# Altium schematic symbol library B-NT_RLC.SchLib: 58 symbols
Pins are listed as number, name and electrical type; pins without a type are passive.

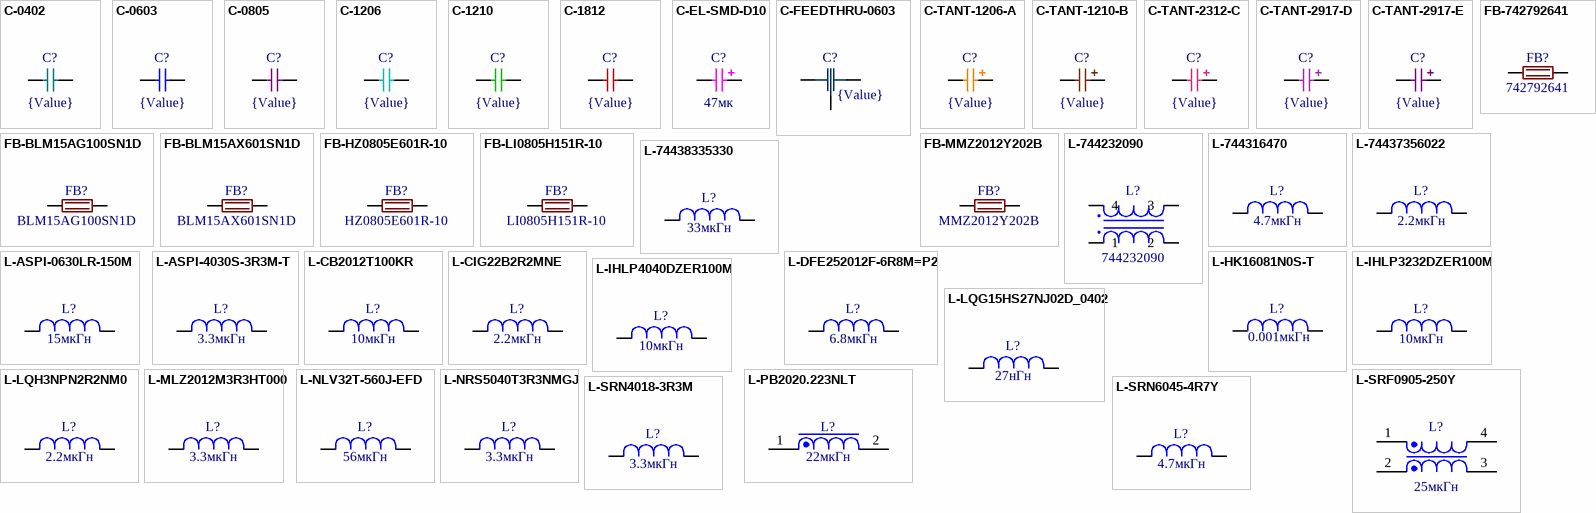
[diagram p0: symbols C-0402 to L-SRN6045-4R7Y]

## C-0402
designator C?  value {Value}
SMD X7R 0402 16В ±10%; ValueManufacturer: Murata Electronics; ValueManufacturerPartNumber: GCM155R71C; ValueDescription: X7R 0402 (1005)  16В  {Value}Ф ±10%; ValueType: Ceramic Capacitor; Price: 0.03; ComponentLink1Description: Murata Electronics Datasheet; ComponentLink1URL: http://www.murata.com/~/media/webrenewal/support/library/catalog/products/capacitor/mlcc/c03e.ashx; Package: X7R 0402 (1005); PowerVoltage: 16В; Tolerance: ±10%; Operating Temperature: -55°C~125°C; CheckDate: SC 18.12.16
footprint C0402
simulation model Capacitor (Model Description)
signal-integrity model Cap (Model Description)
pins: 1, 2
1 alternate drawing of the same symbol

## C-0603
designator C?  value {Value}
SMD X7R 0603 25В ±10%; ValueManufacturer: Murata Electronics; ValueManufacturerPartNumber: GCM188R71H; ValueDescription: X7R 0603 (1608)  25В  {Value}Ф ±10%; ValueType: Ceramic Capacitor; Price: 0.03; ComponentLink1Description: Murata Electronics Datasheet; ComponentLink1URL: http://www.murata.com/~/media/webrenewal/support/library/catalog/products/capacitor/mlcc/c03e.ashx; Package: X7R 0603 (1608); PowerVoltage: 25В; Tolerance: ±10%; Operating Temperature: -55°C~125°C; CheckDate: SC 18.12.16
footprint C0603
simulation model Capacitor (Model Description)
signal-integrity model Cap (Model Description)
pins: 1, 2
1 alternate drawing of the same symbol

## C-0805
designator C?  value {Value}
SMD X7R 0805 50В ±10%; ValueManufacturer: Murata Electronics; ValueManufacturerPartNumber: GCM21BR71H; ValueDescription: X7R 0805 (2012)  50В  {Value}Ф ±10%; ValueType: Ceramic Capacitor; Price: 0.03; ComponentLink1Description: Murata Electronics Datasheet; ComponentLink1URL: http://www.murata.com/~/media/webrenewal/support/library/catalog/products/capacitor/mlcc/c03e.ashx; Package: X7R 0805 (2012); PowerVoltage: 50В; Tolerance: ±10%; Operating Temperature: -55°C~125°C; CheckDate: SC 18.12.16
footprint C0805
simulation model Capacitor (Model Description)
signal-integrity model Cap (Model Description)
pins: 1, 2
1 alternate drawing of the same symbol

## C-1206
designator C?  value {Value}
SMD X7R 1206 100В ±10%; ValueManufacturer: Murata Electronics; ValueManufacturerPartNumber: GCM319R72A; ValueDescription: X7R 1206 (3216)  100В  {Value}Ф ±10%; ValueType: Ceramic Capacitor; Price: 0.35; ComponentLink1Description: Murata Electronics Datasheet; ComponentLink1URL: http://www.murata.com/~/media/webrenewal/support/library/catalog/products/capacitor/mlcc/c03e.ashx; Package: X7R 1206 (3216); PowerVoltage: 100В; Tolerance: ±10%; Operating Temperature: -55°C~125°C; CheckDate: SC 18.12.16
footprint C1206
simulation model Capacitor (Model Description)
signal-integrity model Cap (Model Description)
pins: 1, 2
1 alternate drawing of the same symbol

## C-1210
designator C?  value {Value}
SMD X7R 1210 250В ±10%; ValueManufacturer: Murata Electronics; ValueManufacturerPartNumber: GCJ32DR72E; ValueDescription: X7R 1210 (3225)  250В  {Value}Ф ±10%; ValueType: Ceramic Capacitor; Price: 0.65; ComponentLink1Description: Murata Electronics Datasheet; ComponentLink1URL: http://www.murata.com/~/media/webrenewal/support/library/catalog/products/capacitor/mlcc/c03e.ashx; Package: X7R 1210 (3225); PowerVoltage: 250В; Tolerance: ±10%; Operating Temperature: -55°C~125°C; CheckDate: SC 18.12.16
footprint C1210
simulation model Capacitor (Model Description)
signal-integrity model Cap (Model Description)
pins: 1, 2
1 alternate drawing of the same symbol

## C-1812
designator C?  value {Value}
SMD X7R 1812 630В ±10%; ValueManufacturer: Murata Electronics; ValueManufacturerPartNumber: GCJ43DR72J; ValueDescription: X7R 1812 (4532)  630В  {Value}Ф ±10%; ValueType: Ceramic Capacitor; Price: 1.2; ComponentLink1Description: Murata Electronics Datasheet; ComponentLink1URL: http://www.murata.com/~/media/webrenewal/support/library/catalog/products/capacitor/mlcc/c03e.ashx; Package: X7R 1812 (4532); PowerVoltage: 630В; Tolerance: ±10%; Operating Temperature: -55°C~125°C; CheckDate: SC 18.12.16
footprint C1812
simulation model Capacitor (Model Description)
signal-integrity model Cap (Model Description)
pins: 1, 2
1 alternate drawing of the same symbol

## C-EL-SMD-D10
designator C?  value 47мк
SMD CAP ALUM 47UF 20% 50V 10.30x10.30mm; ValueManufacturer: Panasonic Electronic; ValueManufacturerPartNumber: EEE-FC1H470P; PowerVoltage: 50B; ValueDescription: EEE-FC1H470P  50B  47мкФ ±20%  10.30x10.30mm; ValueType: Electrolytic Capacitor; Price: 0.68; ComponentLink1Description: Panasonic Electronic Components Datasheet; ComponentLink1URL: https://industrial.panasonic.com/ww/products/capacitors/aluminum-capacitors/aluminum-cap-smd/fc-v/EEEFC1H470P; Package: 10.30x10.30mm; Tolerance: ±20%; Operating Temperature: -40°C~105°C; CheckDate: SC 04.01.17
footprint CAP_ELEC_SIZE_G (Capacitor, polarized, aluminum can; 10.0x10.2mm DxH)
pins: 1, 2
1 alternate drawing of the same symbol

## C-FEEDTHRU-0603
designator C?  value {Value}
FEEDTHRU SMD X7R 0603 6.3В ±20%; ValueManufacturer: TDK Corporation; ValueManufacturerPartNumber: YFF18PW0J474MT0H0N; ValueDescription: X7R 0603 (1608)  6.3В  {Value}Ф ±20%; ValueType: Ceramic Capacitor; Price: 0.51; ComponentLink1Description: Murata Electronics Datasheet; ComponentLink1URL: http://www.murata.com/~/media/webrenewal/support/library/catalog/products/capacitor/mlcc/c03e.ashx; Package: X7R 0603 (1608); PowerVoltage: 6.3В; Tolerance: ±20%; Operating Temperature: -55°C~125°C; CheckDate: SC *
footprint C0603-FEEDTHRU
pins: 1, 2, 3
1 alternate drawing of the same symbol

## C-TANT-1206-A
designator C?  value {Value}
SMD TANT 100UF 6.3V 10% 1206; ValueManufacturer: AVX Corporation; ValueManufacturerPartNumber: F930J107KAA; TechSpec: ESR=2 Ohm; ValueDescription: 1206 (3216)  6.3V  {Value}Ф ±10%  ESR=2 Ohm; ValueType: Tantalum Capacitor; Price: 0.73; ComponentLink1Description: AVX Corporation Datasheet; ComponentLink1URL: http://datasheets.avx.com/F93.pdf; Package: 1206 (3216); PowerVoltage: 6.3V; Tolerance: ±10%; Operating Temperature: -55°C~125°C; CheckDate: SC 01.11.17
footprint C-TANT-1206-A
pins: 1, 2
1 alternate drawing of the same symbol

## C-TANT-1210-B
designator C?  value {Value}
SMD TANT 220UF 6.3V 10% 1210; ValueManufacturer: AVX Corporation; ValueManufacturerPartNumber: F930J107KAA; TechSpec: ESR=1.2 Ohm; ValueDescription: 1210 (3528)  6.3V  {Value}Ф ±10%  ESR=1.2 Ohm; ValueType: Tantalum Capacitor; Price: 0.84; ComponentLink1Description: AVX Corporation Datasheet; ComponentLink1URL: http://datasheets.avx.com/F93.pdf; Package: 1210 (3528); PowerVoltage: 6.3V; Tolerance: ±10%; Operating Temperature: -55°C~125°C; CheckDate: SC 01.11.17
footprint C-TANT-1210-B
pins: 1, 2
1 alternate drawing of the same symbol

## C-TANT-2312-C
designator C?  value {Value}
SMD TANT 330UF 6.3V 10% 2312; ValueManufacturer: AVX Corporation; ValueManufacturerPartNumber: TAJC337K006RNJ; TechSpec: ESR=0.5 Ohm; ValueDescription: 2312 (6032)  6.3V  {Value}Ф ±10%  ESR=0.5 Ohm; ValueType: Tantalum Capacitor; Price: 2.29; ComponentLink1Description: AVX Corporation Datasheet; ComponentLink1URL: http://datasheets.avx.com/TAJ.pdf; Package: 2312 (6032); PowerVoltage: 6.3V; Tolerance: ±10%; Operating Temperature: -55°C~125°C; CheckDate: SC 01.11.17
footprint C-TANT-2312-C
pins: 1, 2
1 alternate drawing of the same symbol

## C-TANT-2917-D
designator C?  value {Value}
SMD TANT 470UF 6.3V 10% 2917; ValueManufacturer: AVX Corporation; ValueManufacturerPartNumber: TAJD477K006RNJ; TechSpec: ESR=0.4 Ohm; ValueDescription: 2917 (7343)  6.3V  {Value}Ф ±10%  ESR=0.4 Ohm; ValueType: Tantalum Capacitor; Price: 3.08; ComponentLink1Description: AVX Corporation Datasheet; ComponentLink1URL: http://datasheets.avx.com/TAJ.pdf; Package: 2917 (7343); PowerVoltage: 6.3V; Tolerance: ±10%; Operating Temperature: -55°C~125°C; CheckDate: SC 01.11.17
footprint C-TANT-2917-D
pins: 1, 2
1 alternate drawing of the same symbol

## C-TANT-2917-E
designator C?  value {Value}
SMD TANT 1000UF 6.3V 20% 2917; ValueManufacturer: AVX Corporation; ValueManufacturerPartNumber: TAJE108M006RNJ; TechSpec: ESR=0.2 Ohm; ValueDescription: 2917 (7343)  6.3V  {Value}Ф ±20%  ESR=0.2 Ohm; ValueType: Tantalum Capacitor; Price: 5.18; ComponentLink1Description: AVX Corporation Datasheet; ComponentLink1URL: http://datasheets.avx.com/TAJ.pdf; Package: 2917 (7343); PowerVoltage: 6.3V; Tolerance: ±20%; Operating Temperature: -55°C~125°C; CheckDate: SC 01.11.17
footprint C-TANT-2917-E
pins: 1, 2
1 alternate drawing of the same symbol

## FB-742792641
designator FB?  value 742792641
FERRITE BEAD 300 OHM 2А 0603 1LN; ValueManufacturer: Wurth; PowerVoltage: 2A; Tolerance: 300Ohm@100MHz; ValueDescription: 742792641 Ferrite Bead  0603 (1608)  2A  300Ohm@100MHz; Price: 0.18; Package: 0603 (1608); ValueManufacturerPartNumber: 742792641; ValueType: Ferrite Bead; Operating Temperature: -55°C ~ 125°C; CheckDate: SC *; ComponentLink1Description: Wurth Elc.; ComponentLink1URL: http://katalog.we-online.de/pbs/datasheet/742792641.pdf
footprint FB0603 (Body 1,6x0,8x0,8)
pins: 1, 2
1 alternate drawing of the same symbol

## FB-BLM15AG100SN1D
designator FB?  value BLM15AG100SN1D
FERRITE BEAD 10 OHM 0402 1LN; ValueManufacturer: Murata; PowerVoltage: 1A; Tolerance: 10Ohm @ 100MHz; ValueDescription: BLM15AG100SN1D Ferrite Bead  0402 (1005)  1A  10Ohm @ 100MHz; Price: 0.1; ComponentLink1Description: Murata Datasheet; ComponentLink1URL: https://www.murata.com/en-us/products/productdata/8796740059166/ENFA0018.pdf; Package: 0402 (1005); ValueManufacturerPartNumber: BLM15AG100SN1D; ValueType: Ferrite Bead; Operating Temperature: -55°C~125°C; CheckDate: SC *
footprint FB0402
pins: 1, 2
1 alternate drawing of the same symbol

## FB-BLM15AX601SN1D
designator FB?  value BLM15AX601SN1D
FERRITE BEAD 600 OHM 0402; ValueManufacturer: Murata Electronics North America; PowerVoltage: 500mA; Tolerance: 600Ohm@100MHz; ValueDescription: BLM15AX601SN1D Ferrite Bead  0402 (1005)  500mA  600Ohm@100MHz; Price: 0.11; ComponentLink1Description: Murata Datasheet; ComponentLink1URL: https://www.murata.com/en-us/products/productdata/8796740059166/ENFA0018.pdf; Package: 0402 (1005); ValueManufacturerPartNumber: BLM15AX601SN1D; ValueType: Ferrite Bead; Operating Temperature: -55°C~125°C; CheckDate: SC
footprint FB0402
pins: 1, 2
1 alternate drawing of the same symbol

## FB-HZ0805E601R-10
designator FB?  value HZ0805E601R-10
FERRITE BEAD 600 OHM 0805; ValueManufacturer: Laird; PowerVoltage: 500mA; Tolerance: 600Ohm@100MHz; ValueDescription: HZ0805E601R-10 Ferrite Bead  0805 (2012)  500mA  600Ohm@100MHz; Price: 0.1; ComponentLink1Description: Laird Datasheet; ComponentLink1URL: http://cdn.lairdtech.com/home/brandworld/files/Catalog_EMI%20Filtering%20&%20RF%20Inductors.pdf; Package: 0805 (2012); ValueManufacturerPartNumber: HZ0805E601R-10; ValueType: Ferrite Bead; Operating Temperature: -40°C~125°C; CheckDate: SC 15.01.16
footprint FB0805
pins: 1, 2
1 alternate drawing of the same symbol

## FB-LI0805H151R-10
designator FB?  value LI0805H151R-10
FERRITE BEAD 150 OHM 0805 1LN SMD; ValueManufacturer: Larid; PowerVoltage: 800mA; Tolerance: 150 Ohms @ 100MHz; ValueDescription: LI0805H151R-10 Ferrite Bead  0805 (2012)  800mA  150 Ohms @ 100MHz; Price: 0.1; ComponentLink1Description: Laird Datasheet; ComponentLink1URL: https://media.digikey.com/pdf/Data%20Sheets/Steward%20PDFs/Part%20Number%20Guide.pdf; Package: 0805 (2012); ValueManufacturerPartNumber: LI0805H151R-10; ValueType: Ferrite Bead; Operating Temperature: -40°C~125°C; CheckDate: SC *
footprint FB0805
pins: 1, 2
1 alternate drawing of the same symbol

## FB-MMZ2012Y202B
designator FB?  value MMZ2012Y202B
FERRITE BEAD 2000 OHM 0805; ValueManufacturer: TDK; PowerVoltage: 400mA; Tolerance: 2kOhm@100MHz; ValueDescription: MMZ2012Y202B Ferrite Bead  0805 (2012)  400mA  2kOhm@100MHz; Price: 0.11; ComponentLink1Description: TDK Datasheet; ComponentLink1URL: https://product.tdk.com/info/en/catalog/datasheets/beads_commercial_signal_mmz2012_en.pdf; Package: 0805 (2012); ValueManufacturerPartNumber: MMZ2012Y202B; ValueType: Ferrite Bead; Operating Temperature: -55°C~125°C; CheckDate: SC *
footprint FB0805
pins: 1, 2
1 alternate drawing of the same symbol

## L-744232090
designator L?  value 744232090
CMC 370MA 2LN 90 OHM SMD; ValueManufacturer: Wurth Electronics Inc.; PowerVoltage: 50B; Tolerance: 90 Ohms @ 100MHz; ValueDescription: 744232090 Дроссель 744232090  4 PC Pad  50B  90 Ohms @ 100MHz; ValueType: Common Mode Chokes; Price: 1.23; ComponentLink1Description: Wurth Electronics Inc. Datasheet; ComponentLink1URL: http://katalog.we-online.de/pbs/datasheet/744232090.pdf; Package: 4 PC Pad; ValueManufacturerPartNumber: 744232090; Operating Temperature: -40°C~125°C; CheckDate: SC *
footprint 4 PC Pad_WE-CNSW (Body 3.20mm x 1.60mm)
pins: 1, 2, 3, 4

## L-744316470
designator L?  value 4.7мкГн
FIXED IND 4.7UH 4.6A 24.5 MOHM; ValueManufacturer: Wurth Electronics Inc.; ValueManufacturerPartNumber: 744316470; Tolerance: ±20%; ValueDescription: 744316470 Индуктивность 4.7мкГн  5.5x5.3mm  4.6A  ±20%; ValueType: Inductor; Price: 2.55; ComponentLink1Description: Wurth Electronics Datasheet; ComponentLink1URL: http://katalog.we-online.de/pbs/datasheet/744316470.pdf; Package: 5.5x5.3mm; PowerVoltage: 4.6A; Operating Temperature: -40°C~150°C; CheckDate: SC *
footprint l-744316470
pins: 1, 2
1 alternate drawing of the same symbol

## L-74437356022
designator L?  value 2.2мкГн
FIXED IND 2.2UH 8.5A 20.3 MOHM; ValueManufacturer: Wurth Electronics Inc.; ValueManufacturerPartNumber: 74437356022; Tolerance: ±20%; ValueDescription: 74437356022 Индуктивность 2.2мкГн  9.20x8.50mm  8.5A  ±20%; ValueType: Inductor; Price: 2.08; ComponentLink1Description: Wurth Electronics Datasheet; ComponentLink1URL: http://katalog.we-online.de/pbs/datasheet/74437356022.pdf; Package: 9.20x8.50mm; PowerVoltage: 8.5A; Operating Temperature: -40°C~125°C; CheckDate: SC *
footprint l-74437356022
pins: 1, 2
1 alternate drawing of the same symbol

## L-74438335330
designator L?  value 33мкГн
FIXED IND 33UH 500MA 1.33 OHM; ValueManufacturer: Wurth Electronics; ValueManufacturerPartNumber: 74438335330; PowerVoltage: 0.5A; Tolerance: ±20%; ValueDescription: 74438335330 Индуктивность 33мкГн  1212 (3030)  0.5A  ±20%; ValueType: Inductor; Price: 1.57; Package: 1212 (3030); Operating Temperature: -40°C~125°C; CheckDate: SC *
footprint L-1210 (3225 Metric) (0.126" L x 0.098" W (3.20mm x 2.50mm)_M)
pins: 1, 2
1 alternate drawing of the same symbol

## L-ASPI-0630LR-150M
designator L?  value 15мкГн
FIXED IND 15UH 3A 120 MOHM; ValueManufacturer: Abracon LLC; ValueManufacturerPartNumber: ASPI-0630LR-150M; Tolerance: ±20%; ValueDescription: ASPI-0630LR-150M Индуктивность 15мкГн  7.20x6.65mm  3A  ±20%; ValueType: Inductor; Price: 0.81; ComponentLink1Description: Abracon LLC Datasheet; ComponentLink1URL: http://www.abracon.com/Magnetics/power/ASPI-0630LR.pdf; Package: 7.20x6.65mm; PowerVoltage: 3A; Operating Temperature: -55°C~125°C; CheckDate: SC 15.01.17
footprint L-ASPI-0630LR
pins: 1, 2
1 alternate drawing of the same symbol

## L-ASPI-4030S-3R3M-T
designator L?  value 3.3мкГн
FIXED IND 3.3UH 2.4A 40 MOHM SMD; ValueManufacturer: Abracon LLC; ValueManufacturerPartNumber: ASPI-4030S-3R3M-T; Tolerance: ±20%; ValueDescription: ASPI-4030S-3R3M-T Индуктивность 3.3мкГн  3.0x4.0х4.0mm    ±20%; ValueType: Inductor; Price: 0.79000; ComponentLink1Description: Abracon LLC Datasheet; ComponentLink1URL: https://abracon.com/Magnetics/power/ASPI-4030S.pdf; Package: 3.0x4.0х4.0mm; Operating Temperature: -40°C ~ 125°C; CheckDate: SC *
footprint L-ASPI-4030S-3R3M-T
pins: 1, 2
1 alternate drawing of the same symbol

## L-CB2012T100KR
designator L?  value 10мкГн
FIXED IND 10µH 520mA 650mOhm 0805; ValueManufacturer: Taiyo Yuden; ValueManufacturerPartNumber: CB2012T100KR; PowerVoltage: 0.52A; Tolerance: ±10%; ValueDescription: CB2012T100KR Индуктивность 10мкГн  0805 (2012)  0.52A  ±10%; ValueType: Inductor; Price: 0.23; ComponentLink1Description: Taiyo Yuden Datasheet; ComponentLink1URL: http://www.yuden.co.jp/productdata/catalog/en/wound02_e.pdf; Package: 0805 (2012); Operating Temperature: -40°C~105°C; CheckDate: SC 15.01.17
footprint L0805
pins: 1, 2
1 alternate drawing of the same symbol

## L-CIG22B2R2MNE
designator L?  value 2.2мкГн
FIXED IND 2.2UH 1.1A 183 MOHM; ValueManufacturer: Samsung Electro-Mechanics; ValueManufacturerPartNumber: CIG22B2R2MNE; Tolerance: ±20%; ValueDescription: CIG22B2R2MNE Индуктивность 2.2мкГн  1008 (2520)  1.1A  ±20%; ValueType: Inductor; Price: 0.25; ComponentLink1Description: Samsung Electro-Mechanics Datasheet; ComponentLink1URL: http://www.samsungsem.com/kr/front/downloadcms.do?path=/kr/support/product-search/inductor/__icsFiles/afieldfile/2014/11/13&fileName=S_CIG22B1R0MAE.pdf; Package: 1008 (2520); PowerVoltage: 1.1A; Operating Temperature: -40°C~125°C; CheckDate: SC 25.12.16
footprint L1008 (Chip Inductor, 2-Leads, Body 2,50x2,00mm, IPC Medium Density)
pins: 1, 2
1 alternate drawing of the same symbol

## L-DFE252012F-6R8M=P2
designator L?  value 6.8мкГн
FIXED IND 6.8UH 1.2A 330 MOHM; ValueManufacturer: Murata Electronics North America; ValueManufacturerPartNumber: DFE252012F-6R8M=P2; Tolerance: ±20%; ValueDescription: DFE252012F-6R8M=P2 Индуктивность 6.8мкГн  1008 (2520)  1.2A  ±20%; ValueType: Inductor; Price: 0.67; Package: 1008 (2520); PowerVoltage: 1.2A; Operating Temperature: -40°C~125°C; CheckDate: SC *; ComponentLink1Description: Murata Electronics Datasheet; ComponentLink1URL: https://www.murata.com/~/media/webrenewal/products/inductor/chip/tokoproducts/wirewoundmetalalloychiptype/m_dfe252012f.ashx
footprint L1008 (Chip Inductor, 2-Leads, Body 2,50x2,00mm, IPC Medium Density)
pins: 1, 2
1 alternate drawing of the same symbol

## L-HK16081N0S-T
designator L?  value 0.001мкГн
FIXED INDUCTOR 1NH 300MA 50 MOHM SMD; ValueManufacturer: Taiyo Yuden; ValueManufacturerPartNumber: HK16081N0S-T; Tolerance: ±300пГн; ValueDescription: HK16081N0S-T Индуктивность 0.001мкГн  0603 (1608 Metric)  300mA  ±300пГн; Price: 0.12; ComponentLink1Description: Taiyo Yuden Datasheet; ComponentLink1URL: http://ds.yuden.co.jp/TYCOMPAS/ut/detail.do?productNo=HK16081N0S-T&fileName=HK16081N0S-T_SS&mode=specSheetDownload; Package: 0603 (1608 Metric); PowerVoltage: 300mA; ValueType: Fixed Inductor; Operating Temperature: -40°C ~ 85°C; CheckDate: SC *
footprint L0603_HK16081N0S-T (Body 1,6x0,8x0,8)
pins: 1, 2
1 alternate drawing of the same symbol

## L-IHLP3232DZER100M
designator L?  value 10мкГн
FIXED IND 10UH 5.2A 59.9 MOHM; ValueManufacturer: Vishay Dale; ValueManufacturerPartNumber: IHLP3232DZER100M; TechSpec: Высота 4mm; Tolerance: ±20%; ValueDescription: IHLP3232DZER100M Индуктивность 10мкГн  8.64x8.18mm  5.2A  ±20%  Высота 4mm; ValueType: Inductor; Price: 1.61; ComponentLink1Description: Vishay Dale Datasheet; ComponentLink1URL: http://www.vishay.com/docs/34192/lp40dz11.pdf; Package: 8.64x8.18mm; PowerVoltage: 5.2A; Operating Temperature: -55°C~125°C; CheckDate: SC 20.11.17
footprint L-IHLP3232DZER100M
pins: 1, 2
1 alternate drawing of the same symbol

## L-IHLP4040DZER100M
designator L?  value 10мкГн
FIXED IND 10UH 7.5A 30.5 MOHM; ValueManufacturer: Vishay Dale; ValueManufacturerPartNumber: IHLP4040DZER100M; PowerVoltage: 7.1A; Tolerance: ±20%; ValueDescription: IHLP4040DZER100M Индуктивность 10мкГн  11x10.30mm  7.1A  ±20%; ValueType: Inductor; Price: 2.48; ComponentLink1Description: Vishay Dale Datasheet; ComponentLink1URL: http://www.vishay.com/docs/34192/lp40dz11.pdf; Package: 11x10.30mm; Operating Temperature: -55°C~125°C; CheckDate: SC 12.03.17
footprint L-IHLP4040DZER100M11 (Chip Inductor, 2-Leads, Body 10.92mm x 10.30mm,  Vishay Dale)
pins: 1, 2
1 alternate drawing of the same symbol

## L-LQG15HS27NJ02D_0402
designator L?  value 27нГн
FIXED IND 27NH 350MA 460 MOHM; ValueManufacturer: Murata Electronics; ValueManufacturerPartNumber: LQG15HS27NJ02D; TechSpec: 460 mOhm Max; Tolerance: ±5%; ValueDescription: LQG15HS27NJ02D Индуктивность 27нГн  1.0x0.5mm  350mA  ±5%  460 mOhm Max; ValueType: Inductor; Price: 0.1; ComponentLink1Description: Murata Electronics Datasheet; ComponentLink1URL: http://psearch.en.murata.com/inductor/product/LQG15HS27NJ02_.pdf; Package: 1.0x0.5mm; PowerVoltage: 350mA; Operating Temperature: -40°C~125°C; CheckDate: SC *
footprint L0402
pins: 1, 2
1 alternate drawing of the same symbol

## L-LQH3NPN2R2NM0
designator L?  value 2.2мкГн
FIXED IND 2.2UH 1.6A 73 MOHM; ValueManufacturer: Murata; ValueManufacturerPartNumber: LQH3NPN2R2NM0; PowerVoltage: 1.25A; Tolerance: ±30%; ValueDescription: LQH3NPN2R2NM0 Индуктивность 2.2мкГн  1212  1.25A  ±30%; ValueType: Inductor; Price: 0.44; ComponentLink1Description: Murata Datasheet; ComponentLink1URL: http://psearch.en.murata.com/inductor/product/LQH3NPN2R2NM0%23.pdf; Package: 1212; Operating Temperature: -40°C~85°C; CheckDate: SC 12.03.17
footprint 1212_LQH3NPN2R2NM0L
pins: 1, 2
1 alternate drawing of the same symbol

## L-MLZ2012M3R3HT000
designator L?  value 3.3мкГн
FIXED IND 3.3UH 500MA 200 MOHM; ValueManufacturer: Taiyo Yuden; ValueManufacturerPartNumber: MLZ2012M3R3HT000; PowerVoltage: 0.5A; Tolerance: ±20%; ValueDescription: MLZ2012M3R3HT000 Индуктивность 3.3мкГн  0805 (2012)  0.5A  ±20%; ValueType: Inductor; Price: 0.15; ComponentLink1Description: TDK Corporation Datasheet; ComponentLink1URL: https://product.tdk.com/info/en/catalog/datasheets/inductor_commercial_decoupling_mlz2012_en.pdf; Package: 0805 (2012); Operating Temperature: -55°C ~ 125°C; CheckDate: SC *
footprint L0805
pins: 1, 2
1 alternate drawing of the same symbol

## L-NLV32T-560J-EFD
designator L?  value 56мкГн
FIXED IND 56UH 55MA 8 OHM SMD; ValueManufacturer: TDK Corporation; ValueManufacturerPartNumber: NLV32T-560J-EFD; Tolerance: ±5%; ValueDescription: NLV32T-560J-EFD Индуктивность 56мкГн  3.2x2.5х2.4mm  55mA  ±5%; ValueType: Inductor; Price: 0.33; ComponentLink1Description: TDK Corporation Datasheet; ComponentLink1URL: https://product.tdk.com/info/en/catalog/datasheets/inductor_automotive_standard_nlv32-efd_en.pdf; Package: 3.2x2.5х2.4mm; PowerVoltage: 55mA; Operating Temperature: -40°C~105°C; CheckDate: SC *
footprint L-1210 (3225 Metric) (0.126" L x 0.098" W (3.20mm x 2.50mm)_M)
pins: 1, 2
1 alternate drawing of the same symbol

## L-NRS5040T3R3NMGJ
designator L?  value 3.3мкГн
FIXED IND 3.3UH 3.3A 27 MOHM SMD; ValueManufacturer: Taiyo Yuden; ValueManufacturerPartNumber: NRS5040T3R3NMGJ; Tolerance: ±30%; ValueDescription: NRS5040T3R3NMGJ Индуктивность 3.3мкГн  4.9x4.9х4.1mm  3.3A  ±30%; ValueType: Inductor; Price: 0.38; ComponentLink1Description: Taiyo Yuden Datasheet; ComponentLink1URL: http://ds.yuden.co.jp/TYCOMPAS/ut/detail.do?productNo=NRS5040T3R3NMGJ&fileName=NRS5040T3R3NMGJ_SS&mode=specSheetDownload; Package: 4.9x4.9х4.1mm; PowerVoltage: 3.3A; Operating Temperature: -25°C~125°C; CheckDate: SC *
footprint L-NRS5040T3R3NMGJ (Precision Wire Wound Inductor, 2-Leads, Body 4,90x4,90mm, IPC Medium Density)
pins: 1, 2
1 alternate drawing of the same symbol

## L-PB2020.223NLT
designator L?  value 22мкГн
FIXED IND 22UH 8.1A 20 MOHM SMD; ValueManufacturer: Pulse Electronics; ValueManufacturerPartNumber: PB2020.223NLT; Tolerance: ±20%; ValueDescription: PB2020.223NLT Индуктивность 22мкГн  23.9x20.8mm  8.1A  ±20%; ValueType: INDUCTOR; Price: 3.49; ComponentLink1Description: Pulse Electronics Datasheet; ComponentLink1URL: http://productfinder.pulseeng.com/products/datasheets/SPM2007_14.pdf; Package: 23.9x20.8mm; PowerVoltage: 8.1A; Operating Temperature: -40°C~130°C; CheckDate: SC 26.12.16
footprint PB2020 (Inductor, 2-Leads, Body 23,87x20,83mm)
pins: 1, 2
1 alternate drawing of the same symbol

## L-SRF0905-250Y
designator L?  value 25мкГн
CHOKE 25uH 80V 1A 2LN 600OHM SMD; ValueManufacturer: Bourns; ValueManufacturerPartNumber: SRF0905-250Y; PowerVoltage: 80В 1.0A; Tolerance: ±30%; ValueDescription: SRF0905-250Y Дроссель 25мкГн  9.20x6.00mm  80В 1.0A  ±30%; Price: 1.13; ComponentLink1Description: Bourns Datasheet; ComponentLink1URL: http://www.bourns.com/docs/Product-Datasheets/SRF0905.pdf; Package: 9.20x6.00mm; ValueType: Choke; Operating Temperature: -40°C~105°C; CheckDate: SC 26.12.16
footprint SRF0905 (DFN, 4-Leads, Body 6,00x9,20mm)
pins: 1, 2, 3, 4

## L-SRN4018-3R3M
designator L?  value 3.3мкГн
FIXED IND 3.3UH 2.2A 66 MOHM SMD; ValueManufacturer: Bourns Inc.; ValueManufacturerPartNumber: SRN4018-3R3M; Tolerance: ±20%; ValueDescription: SRN4018-3R3M Индуктивность 3.3мкГн  4.0x4.0х1.8mm    ±20%  2.2A; ValueType: Inductor; Price: 0.44; ComponentLink1Description: Bourns Inc. Datasheet; ComponentLink1URL: http://www.bourns.com/docs/Product-Datasheets/SRN6045.pdf; Package: 4.0x4.0х1.8mm; TechSpec: 2.2A; Operating Temperature: -40°C~125°C; CheckDate: SC *
footprint L-SRN4018-3R3M
pins: 1, 2
1 alternate drawing of the same symbol

## L-SRN6045-4R7Y
designator L?  value 4.7мкГн
FIXED IND 4.7UH 3A 37.6 MOHM SMD; ValueManufacturer: Bourns Inc.; ValueManufacturerPartNumber: SRN6045-4R7Y; TechSpec: 3А; Tolerance: ±30%; ValueDescription: SRN6045-4R7Y Индуктивность 4.7мкГн  4.5x6.0х6.0mm    ±30%  3А; ValueType: Inductor; Price: 0.5; ComponentLink1Description: Bourns Inc. Datasheet; ComponentLink1URL: http://www.bourns.com/docs/Product-Datasheets/SRN6045.pdf; Package: 4.5x6.0х6.0mm; Operating Temperature: -40°C ~ 125°C; CheckDate: SC *
footprint L-INDP6060X45N (Precision Wire Wound Inductor, 2-Leads, Body 6,00x6,00mm, IPC Medium Density)
pins: 1, 2
1 alternate drawing of the same symbol

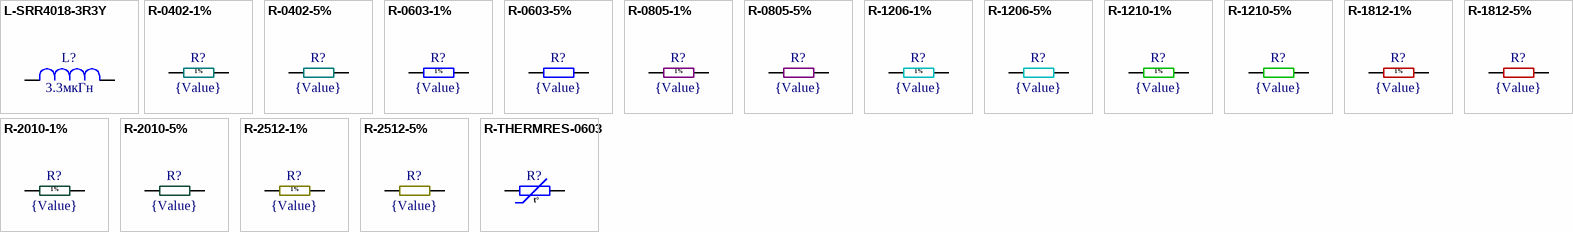
[diagram p1: symbols L-SRR4018-3R3Y to R-THERMRES-0603]

## L-SRR4018-3R3Y
designator L?  value 3.3мкГн
FIXED IND 3.3UH 1.95A 65 MOHM; ValueManufacturer: Bourns Inc.; ValueManufacturerPartNumber: SRR4018-3R3Y; Tolerance: ±30%; ValueDescription: SRR4018-3R3Y Индуктивность 3.3мкГн  2.0x4.8х4.8mm    ±30%; ValueType: Inductor; Price: 0.79000; ComponentLink1Description: Bourns Inc. Datasheet; ComponentLink1URL: http://www.bourns.com/docs/Product-Datasheets/SRR4018.pdf; Package: 2.0x4.8х4.8mm; Operating Temperature: -40°C ~ 125°C; CheckDate: SC * delete
footprint L-INDP4848X20N (Precision Wire Wound Inductor, 2-Leads, Body 4,80x4,80mm, IPC Medium Density)
pins: 1, 2
1 alternate drawing of the same symbol

## R-0402-1%
designator R?  value {Value}
SMD 0402 0.1Вт ±1% 50В; ValueManufacturer: Panasonic; ValueManufacturerPartNumber: ERJ-2RK; PowerVoltage: 0.1Вт 50В; ValueDescription: 0402 (1005)  0.1Вт 50В  {Value}Ом ±1%; ValueType: Chip Resistor; Price: 0.1; ComponentLink1Description: Panasonic Datasheet; ComponentLink1URL: https://industrial.panasonic.com/cdbs/www-data/pdf/RDA0000/AOA0000C86.pdf; Package: 0402 (1005); Tolerance: ±1%; Operating Temperature: -55°C~155°C; CheckDate: SC 17.12.16
footprint R0402
simulation model Resistor (Model Description)
signal-integrity model Res (Model Description)
pins: 1, 2
1 alternate drawing of the same symbol
text: 1%

## R-0402-5%
designator R?  value {Value}
SMD 0402 0.1Вт ±5% 50В; ValueManufacturer: Panasonic; ValueManufacturerPartNumber: ERJ-2GE; PowerVoltage: 0.1Вт 50В; ValueDescription: 0402 (1005)  0.1Вт 50В  {Value}Ом ±5%; ValueType: Chip Resistor; Price: 0.02; ComponentLink1Description: Panasonic Datasheet; ComponentLink1URL: https://industrial.panasonic.com/cdbs/www-data/pdf/RDA0000/AOA0000C84.pdf; Package: 0402 (1005); Tolerance: ±5%; Operating Temperature: -55°C~155°C; CheckDate: SC 17.12.16
footprint R0402
simulation model Resistor (Model Description)
signal-integrity model Res (Model Description)
pins: 1, 2
1 alternate drawing of the same symbol

## R-0603-1%
designator R?  value {Value}
SMD 0603 0.1Вт ±1% 75В; ValueManufacturer: Panasonic; ValueManufacturerPartNumber: ERJ-3EK; PowerVoltage: 0.1Вт 75В; ValueDescription: 0603 (1608)  0.1Вт 75В  {Value}Ом ±1%; ValueType: Chip Resistor; Price: 0.1; ComponentLink1Description: Panasonic Datasheet; ComponentLink1URL: https://industrial.panasonic.com/cdbs/www-data/pdf/RDA0000/AOA0000C86.pdf; Package: 0603 (1608); Tolerance: ±1%; Operating Temperature: -55°C~155°C; CheckDate: SC 17.12.16
footprint R0603
simulation model Resistor (Model Description)
signal-integrity model Res (Model Description)
pins: 1, 2
1 alternate drawing of the same symbol
text: 1%

## R-0603-5%
designator R?  value {Value}
SMD 0603 0.1Вт ±5% 75В; ValueManufacturer: Panasonic; ValueManufacturerPartNumber: ERJ-3GE; PowerVoltage: 0.1Вт 75В; ValueDescription: 0603 (1608)  0.1Вт 75В  {Value}Ом ±5%; ValueType: Chip Resistor; Price: 0.02; ComponentLink1Description: Panasonic Datasheet; ComponentLink1URL: https://industrial.panasonic.com/cdbs/www-data/pdf/RDA0000/AOA0000C84.pdf; Package: 0603 (1608); Tolerance: ±5%; Operating Temperature: -55°C~155°C; CheckDate: SC 17.12.16
footprint R0603
simulation model Resistor (Model Description)
signal-integrity model Res (Model Description)
pins: 1, 2
1 alternate drawing of the same symbol

## R-0805-1%
designator R?  value {Value}
SMD 0805 0.125Вт ±1% 150В; ValueManufacturer: Panasonic; ValueManufacturerPartNumber: ERJ-6EN; PowerVoltage: 0.125Вт,150В; ValueDescription: 0805(2012)  0.125Вт,150В  {Value}Ом ±1%; ValueType: Chip Resistor; Price: 0.1; ComponentLink1Description: Panasonic Datasheet; ComponentLink1URL: https://industrial.panasonic.com/cdbs/www-data/pdf/RDA0000/AOA0000C86.pdf; Package: 0805(2012); Tolerance: ±1%; Operating Temperature: -55°C~155°C; CheckDate: SC 17.12.16
footprint R0805
simulation model Resistor (Model Description)
signal-integrity model Res (Model Description)
pins: 1, 2
1 alternate drawing of the same symbol
text: 1%

## R-0805-5%
designator R?  value {Value}
SMD 0805 0.125Вт ±5% 150В; ValueManufacturer: Panasonic; ValueManufacturerPartNumber: ERJ-6GE; PowerVoltage: 0.125Вт 150В; ValueDescription: 0805 (2012)  0.125Вт 150В  {Value}Ом ±5%; ValueType: Chip Resistor; Price: 0.02; ComponentLink1Description: Panasonic Datasheet; ComponentLink1URL: https://industrial.panasonic.com/cdbs/www-data/pdf/RDA0000/AOA0000C84.pdf; Package: 0805 (2012); Tolerance: ±5%; Operating Temperature: -55°C~155°C; CheckDate: SC 17.12.16
footprint R0805
simulation model Resistor (Model Description)
signal-integrity model Res (Model Description)
pins: 1, 2
1 alternate drawing of the same symbol

## R-1206-1%
designator R?  value {Value}
SMD 1206 0.25Вт ±1% 200В; ValueManufacturer: Panasonic; ValueManufacturerPartNumber: ERJ-8EN; PowerVoltage: 0.25Вт 200В; ValueDescription: 1206 (3216)  0.25Вт 200В  {Value}Ом ±1%; ValueType: Chip Resistor; Price: 0.1; ComponentLink1Description: Panasonic Datasheet; ComponentLink1URL: https://industrial.panasonic.com/cdbs/www-data/pdf/RDA0000/AOA0000C86.pdf; Package: 1206 (3216); Tolerance: ±1%; Operating Temperature: -55°C~155°C; CheckDate: SC 17.12.16
footprint R1206
simulation model Resistor (Model Description)
signal-integrity model Res (Model Description)
pins: 1, 2
1 alternate drawing of the same symbol
text: 1%

## R-1206-5%
designator R?  value {Value}
SMD 1206 0.25Вт ±5% 200В; ValueManufacturer: Panasonic; ValueManufacturerPartNumber: ERJ-8GE; PowerVoltage: 0.25Вт 200В; ValueDescription: 1206 (3216)  0.25Вт 200В  {Value}Ом ±5%; ValueType: Chip Resistor; Price: 0.05; ComponentLink1Description: Panasonic Datasheet; ComponentLink1URL: https://industrial.panasonic.com/cdbs/www-data/pdf/RDA0000/AOA0000C84.pdf; Package: 1206 (3216); Tolerance: ±5%; Operating Temperature: -55°C~155°C; CheckDate: SC 17.12.16
footprint R1206
simulation model Resistor (Model Description)
signal-integrity model Res (Model Description)
pins: 1, 2
1 alternate drawing of the same symbol

## R-1210-1%
designator R?  value {Value}
SMD 1210 0.5Вт ±1% 200В; ValueManufacturer: Panasonic; ValueManufacturerPartNumber: ERJ-14N; PowerVoltage: 0.5Вт 200В; ValueDescription: 1210 (3225)  0.5Вт 200В  {Value}Ом ±1%; ValueType: Chip Resistor; Price: 0.35; ComponentLink1Description: Panasonic Datasheet; ComponentLink1URL: https://industrial.panasonic.com/cdbs/www-data/pdf/RDA0000/AOA0000C86.pdf; Package: 1210 (3225); Tolerance: ±1%; Operating Temperature: -55°C~155°C; CheckDate: SC 17.12.16
footprint R1210
simulation model Resistor (Model Description)
signal-integrity model Res (Model Description)
pins: 1, 2
1 alternate drawing of the same symbol
text: 1%

## R-1210-5%
designator R?  value {Value}
SMD 1210 0.5Вт ±5% 200В; ValueManufacturer: Panasonic; ValueManufacturerPartNumber: ERJ-12; PowerVoltage: 0.5Вт 200В; ValueDescription: 1210 (3225)  0.5Вт 200В  {Value}Ом ±5%; ValueType: Chip Resistor; Price: 0.08; ComponentLink1Description: Panasonic Datasheet; ComponentLink1URL: https://industrial.panasonic.com/cdbs/www-data/pdf/RDA0000/AOA0000C84.pdf; Package: 1210 (3225); Tolerance: ±5%; Operating Temperature: -55°C~155°C; CheckDate: SC 17.12.16
footprint R1210
simulation model Resistor (Model Description)
signal-integrity model Res (Model Description)
pins: 1, 2
1 alternate drawing of the same symbol

## R-1812-1%
designator R?  value {Value}
SMD 1812 0.75Вт ±1% 200В; ValueManufacturer: Panasonic; ValueManufacturerPartNumber: ERJ-12N; PowerVoltage: 0.75Вт 200В; ValueDescription: 1812 (4532)  0.75Вт 200В  {Value}Ом ±1%; ValueType: Chip Resistor; Price: 0.4; ComponentLink1Description: Panasonic Datasheet; ComponentLink1URL: https://industrial.panasonic.com/cdbs/www-data/pdf/RDA0000/AOA0000C86.pdf; Package: 1812 (4532); Tolerance: ±1%; Operating Temperature: -55°C~155°C; CheckDate: SC 17.12.16
footprint R1812
simulation model Resistor (Model Description)
signal-integrity model Res (Model Description)
pins: 1, 2
1 alternate drawing of the same symbol
text: 1%

## R-1812-5%
designator R?  value {Value}
SMD 1812 0.75Вт ±5% 200В; ValueManufacturer: Panasonic; ValueManufacturerPartNumber: ERJ-14; PowerVoltage: 0.75Вт 200В; ValueDescription: 1812 (4532)  0.75Вт 200В  {Value}Ом ±5%; ValueType: Chip Resistor; Price: 0.1; ComponentLink1Description: Panasonic Datasheet; ComponentLink1URL: https://industrial.panasonic.com/cdbs/www-data/pdf/RDA0000/AOA0000C84.pdf; Package: 1812 (4532); Tolerance: ±5%; Operating Temperature: -55°C~155°C; CheckDate: SC 17.12.16
footprint R1812
simulation model Resistor (Model Description)
signal-integrity model Res (Model Description)
pins: 1, 2
1 alternate drawing of the same symbol

## R-2010-1%
designator R?  value {Value}
SMD 2010 0.75Вт ±1% 200В; ValueManufacturer: Panasonic; ValueManufacturerPartNumber: ERJ-12S; PowerVoltage: 0.75Вт 200В; ValueDescription: 2010 (5025)  0.75Вт 200В  {Value}Ом ±1%; ValueType: Chip Resistor; Price: 0.4; ComponentLink1Description: Panasonic Datasheet; ComponentLink1URL: https://industrial.panasonic.com/cdbs/www-data/pdf/RDA0000/AOA0000C86.pdf; Package: 2010 (5025); Tolerance: ±1%; Operating Temperature: -55°C~155°C; CheckDate: SC 17.12.16
footprint R2010
simulation model Resistor (Model Description)
signal-integrity model Res (Model Description)
pins: 1, 2
1 alternate drawing of the same symbol
text: 1%

## R-2010-5%
designator R?  value {Value}
SMD 2010 0.75Вт ±5% 200В; ValueManufacturer: Panasonic; ValueManufacturerPartNumber: ERJ-12; PowerVoltage: 0.75Вт 200В; ValueDescription: 2010 (5025)  0.75Вт 200В  {Value}Ом ±5%; ValueType: Chip Resistor; Price: 0.15; ComponentLink1Description: Panasonic Datasheet; ComponentLink1URL: https://industrial.panasonic.com/cdbs/www-data/pdf/RDA0000/AOA0000C84.pdf; Package: 2010 (5025); Tolerance: ±5%; Operating Temperature: -55°C~155°C; CheckDate: SC 17.12.16
footprint R2010
simulation model Resistor (Model Description)
signal-integrity model Res (Model Description)
pins: 1, 2
1 alternate drawing of the same symbol

## R-2512-1%
designator R?  value {Value}
SMD 2512 1Вт ±1% 200В; ValueManufacturer: Panasonic; ValueManufacturerPartNumber: ERJ-1TN; PowerVoltage: 1Вт 200В; ValueDescription: 2512 (6432)  1Вт 200В  {Value}Ом ±1%; ValueType: Chip Resistor; Price: 0.75; ComponentLink1Description: Panasonic Datasheet; ComponentLink1URL: https://industrial.panasonic.com/cdbs/www-data/pdf/RDA0000/AOA0000C86.pdf; Package: 2512 (6432); Tolerance: ±1%; Operating Temperature: -55°C~155°C; CheckDate: SC_17.12.16
footprint R2512
simulation model Resistor (Model Description)
signal-integrity model Res (Model Description)
pins: 1, 2
1 alternate drawing of the same symbol
text: 1%

## R-2512-5%
designator R?  value {Value}
SMD 2512 1Вт ±1% 200В; ValueManufacturer: Panasonic; ValueManufacturerPartNumber: ERJ-1T; PowerVoltage: 1Вт 200В; Tolerance: ±5%; ValueDescription: 2512 (6432)  1Вт 200В  {Value}Ом ±5%; ValueType: Chip Resistor; Price: 0.2; ComponentLink1Description: Panasonic Datasheet; ComponentLink1URL: https://industrial.panasonic.com/cdbs/www-data/pdf/RDA0000/AOA0000C84.pdf; Package: 2512 (6432); Operating Temperature: -55°C~155°C; CheckDate: SC_17.12.16
footprint R2512
simulation model Resistor (Model Description)
signal-integrity model Res (Model Description)
pins: 1, 2
1 alternate drawing of the same symbol

## R-THERMRES-0603
designator R?
THERM NTC 100KOHM 4700K 0603; ValueManufacturer: Panasonic; ValueManufacturerPartNumber: ERT-J1VV104J; PowerVoltage: 0.1Вт 75В; Tolerance: ±5%; ValueDescription: 0603 (1608)  0.1Вт 75В  {Value}Ом ±5%; ValueType: Thermoresistor; Value: {Value}; Price: 0.24; ComponentLink1Description: Panasonic Datasheet; ComponentLink1URL: https://industrial.panasonic.com/cdbs/www-data/pdf/RDA0000/AOA0000C86.pdf; Package: 0603 (1608); Operating Temperature: -40°C~125°C; CheckDate: *
footprint R0603
simulation model Resistor (Model Description)
signal-integrity model Res (Model Description)
pins: 1, 2
1 alternate drawing of the same symbol
text: t°